# Altium schematic symbol library SPX5205M5-L-5-0.Schlib: 1 symbol
Pins are listed as number, name and electrical type; pins without a type are passive.

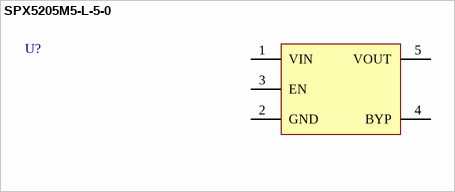
[diagram p0: symbol SPX5205M5-L-5-0]

## SPX5205M5-L-5-0
designator U?
5V, 150mA, Low-Noise LDO Voltage Regulator
pins: 1 VIN (power), 2 GND (power), 3 EN, 4 BYP, 5 VOUT (power)